# Altium footprint library LY.PcbLib: 39 footprints (part 3 of 3)
Each footprint in its own frame and in the unit in brackets; x right, y up, seen from the top. Pads: shape width x height; smd on the part's side, far side on the other; paste and mask are expansions set on the pad; w line width, h text height; cw(c..) or ccw(c..) is an arc to the next point about the centre after c.
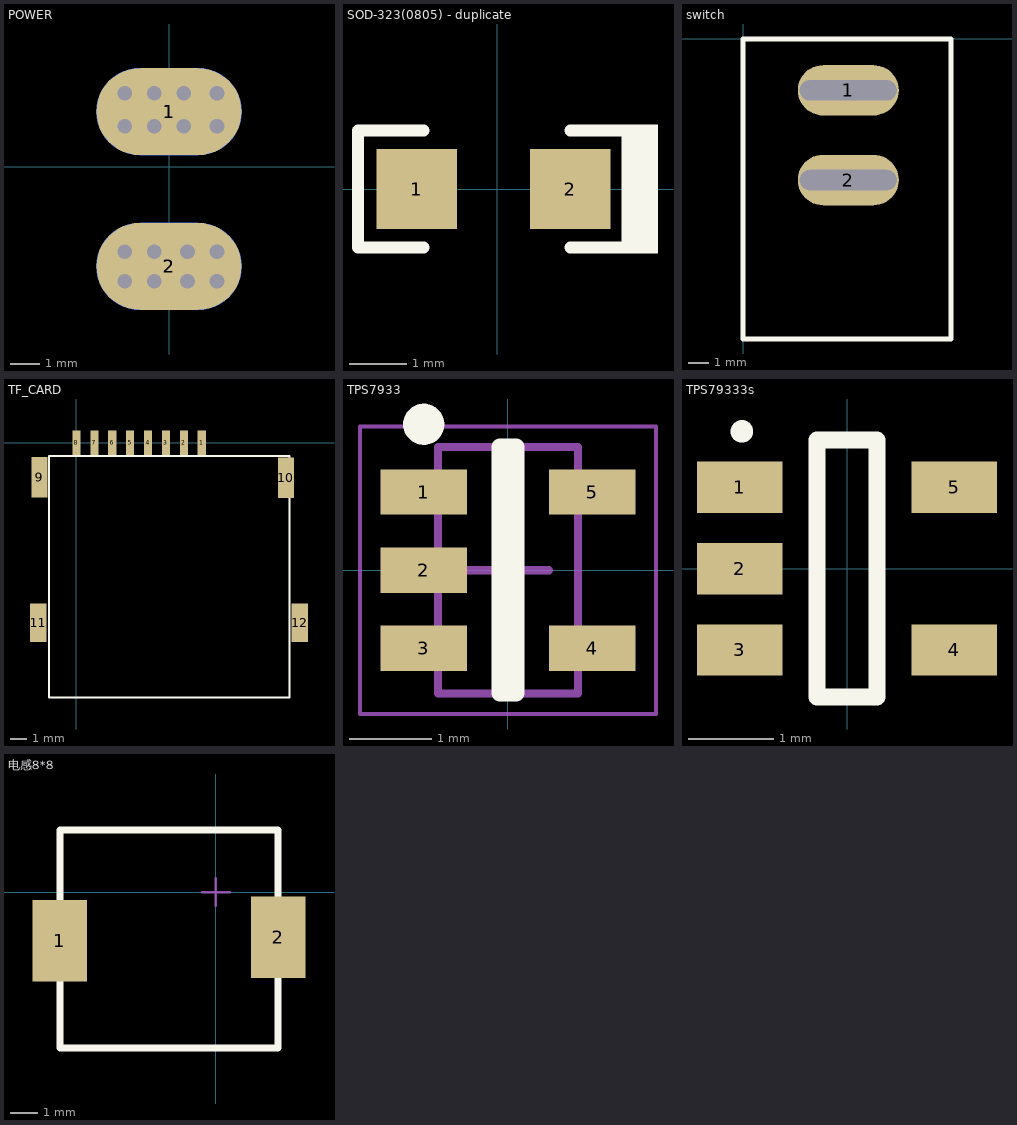
[diagram p2: the footprints below, top view; thin cyan lines are the x and y axes]

## POWER [mm]
pads (4):
  oval 5x3 smd: 1(0,1.905) 2(0,-3.429)
  oval 5x3 smd far side: 1(0,1.905) 2(0,-3.429)
via 1.651,1.397 diameter 0.762 hole 0.508
via -1.524,-2.921 diameter 0.762 hole 0.508
via -1.524,2.54 diameter 0.762 hole 0.508
via -1.524,1.397 diameter 0.762 hole 0.508
via 1.651,2.54 diameter 0.762 hole 0.508
via -0.508,2.54 diameter 0.762 hole 0.508
via -0.508,1.397 diameter 0.762 hole 0.508
via -1.524,-3.937 diameter 0.762 hole 0.508
via -0.508,-2.921 diameter 0.762 hole 0.508
via -0.508,-3.937 diameter 0.762 hole 0.508
via 0.635,-2.921 diameter 0.762 hole 0.508
via 0.635,-3.937 diameter 0.762 hole 0.508
via 0.508,2.54 diameter 0.762 hole 0.508
via 0.508,1.397 diameter 0.762 hole 0.508
via 1.651,-2.921 diameter 0.762 hole 0.508
via 1.651,-3.937 diameter 0.762 hole 0.508

## SOD-323(0805) - duplicate [mil]
pads (2):
  rect 55x55 smd: 1(-55,0) 2(50,0)
Top Overlay:
  rectangle: 85,-44 110,44
  lines w8: -50,-40 -95,-40 -95,40 -50,40 ; 50,-40 90,-40 ; 50,40 90,40

## switch [mm]
pads (2):
  oval 5x2.5 hole 1 slot 4.8 at 0 deg: 1(5.207,-2.54) 2(5.207,-6.985)
Top Overlay:
  lines w0.254: 0,-14.859 0,0 10.287,0 10.287,-14.859 0,-14.859

## TF_CARD [mm]
pads (12):
  rect 0.5x1.5 smd: 1(7.7,0) 2(6.6,0) 3(5.5,0) 4(4.4,0) 5(3.3,0) 6(2.2,0) 7(1.1,0) 8(0,0)
  rect 1x2.5 smd: 9(-2.275,-2.125) 10(12.875,-2.15)
  rect 1x2.36 smd: 11(-2.35,-11.05) 12(13.725,-11.05)
Top Overlay:
  lines w0.127: -1.698,-15.65 13.1,-15.65 13.1,-0.812 -1.698,-0.812 -1.698,-15.65

## TPS7933 [mm] "SOT23, 5-Leads, Body 2.90x2.45mm, Pitch 0.95mm, IPC Medium Density"
height 1.45
pads (5):
  rect 1.05x0.55 smd: 1(-1.025,0.95) 2(-1.025,0) 3(-1.025,-0.95) 4(1.025,-0.95) 5(1.025,0.95)
Top Overlay:
  circle w0.25: c-1.025,1.775 r0.125
  lines w0.2: -0.1,-1.5 0.1,-1.5 0.1,1.5 -0.1,1.5 -0.1,-1.5
Mechanical 13:
  lines w0.1: -0.85,-1.5 -0.85,1.5 0.85,1.5 0.85,-1.5 -0.85,-1.5
Mechanical 15:
  lines w0.05: -1.8,-1.75 -1.8,1.75 1.8,1.75 1.8,-1.75 -1.8,-1.75
  lines w0.1: -0.5,0 0.5,0 ; 0,-0.5 0,0.5
3D body: height 1.45, standoff 0.15, extent -0.85,-1.5 0.85,1.5

## TPS79333s [mm] "SOT23, 5-Leads, Body 2.90x2.90mm, Pitch 0.95mm, IPC Medium Density"
height 1.45
pads (5):
  rect 1x0.6 smd: 1(-1.25,0.95) 2(-1.25,0) 3(-1.25,-0.95) 4(1.25,-0.95) 5(1.25,0.95)
Top Overlay:
  circle w0.25: c-1.226,1.6 r0.006
  lines w0.2: -0.35,-1.5 0.35,-1.5 0.35,1.5 -0.35,1.5 -0.35,-1.5

## 电感8*8 [mm]
pads (2):
  rect 2x3 smd: 1(-5.715,-1.778) 2(2.286,-1.651)
Top Overlay:
  lines w0.254: -5.715,-2.54 -5.715,-3.048 -5.715,-5.715 2.286,-5.715 2.286,-3.048 2.286,-2.54 ; -5.715,-1.016 -5.715,0.254 -5.715,2.286 2.286,2.286 2.286,-0.635 2.286,-1.016
Mechanical 15:
  lines w0.1: -0.5,0 0.5,0 ; 0,-0.5 0,0.5